# Altium schematic symbol library TX_OptionBOM.Schlib: 1 symbol
Pins are listed as number, name and electrical type; pins without a type are passive.

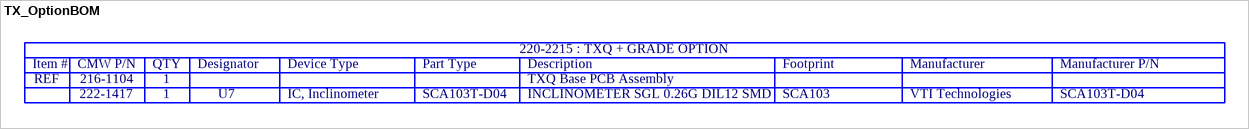
[diagram p0: symbol TX_OptionBOM]

## TX_OptionBOM
designator OB1
text: 220-2215 : TXQ + GRADE OPTION; Item #; CMW P/N; QTY; Designator; Device Type; Part Type; Description; Footprint; Manufacturer; Manufacturer P/N; REF; 216-1104; 1; TXQ Base PCB Assembly; 222-1417; U7; IC, Inclinometer; SCA103T-D04; INCLINOMETER SGL 0.26G DIL12 SMD; SCA103; VTI Technologies